# Altium footprint library lib.PcbLib: 34 footprints (part 2 of 3)
Each footprint in its own frame and in the unit in brackets; x right, y up, seen from the top. Pads: shape width x height; smd on the part's side, far side on the other; paste and mask are expansions set on the pad; w line width, h text height; cw(c..) or ccw(c..) is an arc to the next point about the centre after c.
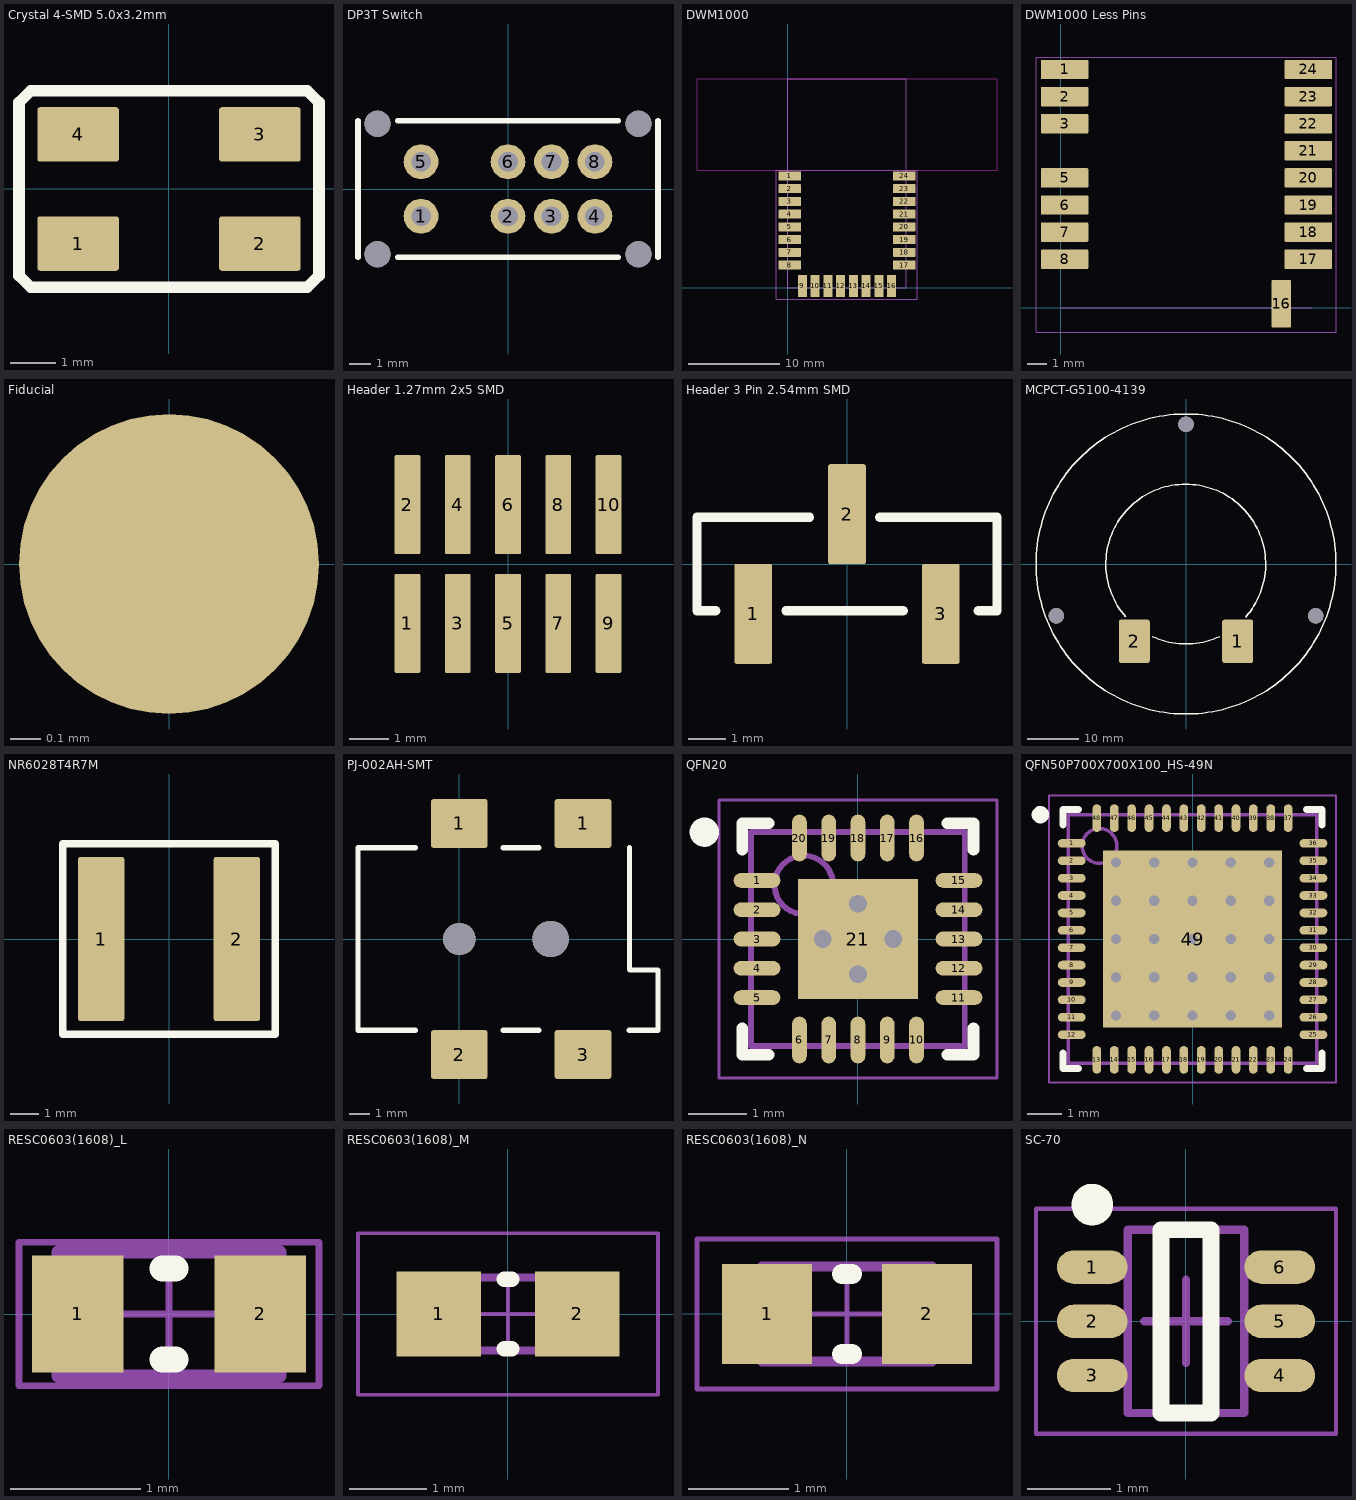
[diagram p1: the footprints below, top view; thin cyan lines are the x and y axes]

## Crystal 4-SMD 5.0x3.2mm [mm] "Crystal 4-SMD 5.0x3.2mm"
height 1.1
pads (4):
  rrect10% 1.8x1.2 smd: 1(-2,-1.2) 2(2,-1.2) 3(2,1.2) 4(-2,1.2)
Top Overlay:
  lines w0.254: -3.302,-1.905 -3.302,1.905 -3.048,2.159 3.048,2.159 3.302,1.905 3.302,-1.905 3.048,-2.159 -3.048,-2.159 -3.302,-1.905
3D body "ABM3B.STEP": height 1.1, standoff -0.01, extent -2.5,-1.587 2.5,1.588

## DP3T Switch [mm] "DP3T Switch"
height 8.5
pads (12):
  round 1.6 hole 0.9: 1(-4,-1.25) 2(0,-1.25) 3(2,-1.25) 4(4,-1.25) 5(-4,1.25) 6(0,1.25) 7(2,1.25) 8(4,1.25)
  round 1.2 hole 1.2 unplated: ""(-6,-3) ""(-6,3) ""(6,-3) ""(6,3)
Top Overlay:
  lines w0.254: -6.9,-3.15 -6.9,3.15 ; -5.08,-3.15 5.08,-3.15 ; -5.08,3.15 5.08,3.15 ; 6.9,-3.15 6.9,3.15
3D body "dp3t_switch.STEP": height 8.5, standoff 0, extent -6.9,-16.405 6.9,3.25

## DWM1000 [mm]
pads (24):
  rrect10% 2.45x1 smd: 1(0.205,12.3) 2(0.205,10.9) 3(0.205,9.5) 4(0.205,8.1) 5(0.205,6.7) 6(0.205,5.3) 7(0.205,3.9) 8(0.205,2.5) 17(12.795,2.5) 18(12.795,3.9) 19(12.795,5.3) 20(12.795,6.7) 21(12.795,8.1) 22(12.795,9.5) 23(12.795,10.9) 24(12.795,12.3)
  rrect10% 1x2.45 smd: 9(1.6,0.205) 10(3,0.205) 11(4.4,0.205) 12(5.8,0.205) 13(7.2,0.205) 14(8.6,0.205) 15(10,0.205) 16(11.4,0.205)
Keep-Out Layer:
  lines w0.05: 0,12.925 -10,12.925 -10,23 23,23 23,12.925 13,12.925
Mechanical 13:
  lines w0.05: 0,0 0,23 13,23 13,0 0,0
Mechanical 15:
  lines w0.05: -1.27,-1.27 14.224,-1.27 14.224,12.925 -1.27,12.925 -1.27,-1.27
3D body "DWM1000 Module.STEP": height 2.9, standoff -0.01, extent 0,-0.013 13,22.987

## DWM1000 Less Pins [mm]
pads (16):
  rrect10% 2.45x1 smd: 1(0.205,12.3) 2(0.205,10.9) 3(0.205,9.5) 5(0.205,6.7) 6(0.205,5.3) 7(0.205,3.9) 8(0.205,2.5) 17(12.795,2.5) 18(12.795,3.9) 19(12.795,5.3) 20(12.795,6.7) 21(12.795,8.1) 22(12.795,9.5) 23(12.795,10.9) 24(12.795,12.3)
  rrect10% 1x2.45 smd: 16(11.4,0.205)
Mechanical 13:
  lines w0.05: 0,0 13,0
Mechanical 15:
  lines w0.05: -1.27,-1.27 14.224,-1.27 14.224,12.925 -1.27,12.925 -1.27,-1.27
3D body "DWM1000 Module.STEP": height 2.9, standoff -0.01, extent 0,-0.013 13,22.987

## Fiducial [mm] "Fiducial"
pads (1):
  round 1 smd paste-1 mask+0: ""(0,0)

## Header 1.27mm 2x5 SMD [mm] "Header 1.27mm 5x2 SMD"
height 4.5
pads (10):
  rrect10% 0.65x2.5 smd: 1(-2.54,-1.5) 2(-2.54,1.5) 3(-1.27,-1.5) 4(-1.27,1.5) 5(0,-1.5) 6(0,1.5) 7(1.27,-1.5) 8(1.27,1.5) 9(2.54,-1.5) 10(2.54,1.5)
3D body "pin_header_a-sl127-dg-g10mp1.stp": height 6.4, standoff 0, extent -3.175,-2.751 3.175,2.751

## Header 3 Pin 2.54mm SMD [mm] "Header 3 Pin 2.54mm SMD"
height 5
pads (3):
  rrect10% 1.02x2.7 smd: 1(-2.54,-1.35) 2(0,1.35) 3(2.54,-1.35)
Top Overlay:
  lines w0.254: -3.556,-1.27 -4.06,-1.27 -4.06,1.27 -1.016,1.27 ; -1.651,-1.27 1.524,-1.27 ; 0.889,1.27 4.06,1.27 4.06,-1.27 3.556,-1.27
3D body "BG125-03-X-1-1-0440-X-X_revG.step": height 5, standoff 0, extent -4.056,-2.2 4.064,2.2

## MCPCT-G5100-4139 [mm] "Piezo Speaker"
height 16
pads (5):
  rrect15% 6x8.4 smd paste-8.4: 1(10,-14.95) 2(-10,-14.95)
  round 3 hole 3 unplated: ""(-25.07,-10.04) ""(0,27) ""(25.07,-10.04)
Top Overlay:
  circle w0.254: c0,0 r29
  lines w0.254: -11.642,-10.24 cw(c-0.05,-0.025) 11.531,-10.252 ; -6.486,-14.023 ccw(c0,0) 6.497,-14.018
3D body "multicomp_MCPCT-G5120-4140_5.1mmdiameter.STEP": height 16, standoff 0, extent -25.5,-25.5 25.5,25.5

## NR6028T4R7M [mm]
height 2.8
pads (2):
  rrect10% 1.6x5.7 smd: 1(-2.35,0) 2(2.35,0)
Top Overlay:
  lines w0.254: -3.683,-3.302 3.683,-3.302 3.683,3.302 -3.683,3.302 -3.683,-3.302
3D body "IND_TAIYO_NR6028.stp": height 2.79, standoff 0, extent -3.099,-3.099 3.099,3.099

## PJ-002AH-SMT [mm]
height 11
pads (6):
  rrect10% 2.8x2.4 smd: 1(0,5.7) 1(6.1,5.7) 2(0,-5.7) 3(6.1,-5.7)
  round 1.6 hole 1.6 unplated: ""(0,0)
  round 1.8 hole 1.8 unplated: ""(4.5,0)
Top Overlay:
  lines w0.254: -2.159,-4.5 -5,-4.5 -5,4.5 -2.159,4.5 ; 2.159,-4.5 3.937,-4.5 ; 2.159,4.5 3.937,4.5 ; 8.382,-4.5 9.8,-4.5 9.8,-1.545 ; 8.4,4.5 8.4,-1.506 8.418,-1.524 9.779,-1.524
3D body "pj-002ah-smt.stp": height 11, standoff -1.2, extent -5,-6.3 9.8,6.3

## QFN20 [mm] "QFN, 20-Leads, Body 3.50x3.50mm, Pitch 0.50mm, Thermal Pad 2.05x2.05mm, IPC Medium Density"
height 1
pads (21):
  oval 0.8x0.25 smd: 1(-1.725,1) 2(-1.725,0.5) 3(-1.725,0) 4(-1.725,-0.5) 5(-1.725,-1) 11(1.725,-1) 12(1.725,-0.5) 13(1.725,0) 14(1.725,0.5) 15(1.725,1)
  oval 0.25x0.8 smd: 6(-1,-1.725) 7(-0.5,-1.725) 8(0,-1.725) 9(0.5,-1.725) 10(1,-1.725) 16(1,1.725) 17(0.5,1.725) 18(0,1.725) 19(-0.5,1.725) 20(-1,1.725)
  rect 2.05x2.05 smd paste-2.05: 21(0,0)
via 0,0.6 diameter 0.6 hole 0.3
via 0.6,0 diameter 0.6 hole 0.3
via 0,-0.6 diameter 0.6 hole 0.3
via -0.6,0 diameter 0.6 hole 0.3
Top Overlay:
  circle w0.25: c-2.625,1.825 r0.125
  lines w0.2: -1.975,-1.525 -1.975,-1.975 -1.525,-1.975 ; -1.975,1.525 -1.975,1.975 -1.525,1.975 ; 1.525,-1.975 1.975,-1.975 1.975,-1.525 ; 1.525,1.975 1.975,1.975 1.975,1.525
Top Paste:
  rectangle: -0.92,0.1 -0.1,0.92
  rectangle: 0.1,0.1 0.92,0.92
  rectangle: 0.105,-0.92 0.925,-0.1
  rectangle: -0.92,-0.92 -0.1,-0.1
Mechanical 13:
  circle w0.1: c-0.925,0.925 r0.5
  lines w0.1: -1.825,-1.825 -1.825,1.825 1.825,1.825 1.825,-1.825 -1.825,-1.825
Mechanical 15:
  lines w0.05: -2.375,-2.375 -2.375,2.375 2.375,2.375 2.375,-2.375 -2.375,-2.375
  lines w0.1: -0.5,0 0.5,0 ; 0,-0.5 0,0.5
3D body "QFN50P350X350X100_HS-21N.step": height 1, standoff 0, extent -1.875,-1.875 1.875,1.875

## QFN50P700X700X100_HS-49N [mm] "QFN, 48-Leads, Body 7.00x7.00mm, Pitch 0.50mm, Thermal Pad 5.15x5.10mm, IPC Medium Density"
height 1
pads (49):
  oval 0.8x0.25 smd: 1(-3.475,2.75) 2(-3.475,2.25) 3(-3.475,1.75) 4(-3.475,1.25) 5(-3.475,0.75) 6(-3.475,0.25) 7(-3.475,-0.25) 8(-3.475,-0.75) 9(-3.475,-1.25) 10(-3.475,-1.75) 11(-3.475,-2.25) 12(-3.475,-2.75) 25(3.475,-2.75) 26(3.475,-2.25) 27(3.475,-1.75) 28(3.475,-1.25) 29(3.475,-0.75) 30(3.475,-0.25) 31(3.475,0.25) 32(3.475,0.75) 33(3.475,1.25) 34(3.475,1.75) 35(3.475,2.25) 36(3.475,2.75)
  oval 0.25x0.8 smd: 13(-2.75,-3.475) 14(-2.25,-3.475) 15(-1.75,-3.475) 16(-1.25,-3.475) 17(-0.75,-3.475) 18(-0.25,-3.475) 19(0.25,-3.475) 20(0.75,-3.475) 21(1.25,-3.475) 22(1.75,-3.475) 23(2.25,-3.475) 24(2.75,-3.475) 37(2.75,3.475) 38(2.25,3.475) 39(1.75,3.475) 40(1.25,3.475) 41(0.75,3.475) 42(0.25,3.475) 43(-0.25,3.475) 44(-0.75,3.475) 45(-1.25,3.475) 46(-1.75,3.475) 47(-2.25,3.475) 48(-2.75,3.475)
  rect 5.15x5.1 smd paste-5.15: 49(0,0)
via -2.2,1.1 diameter 0.6 hole 0.3
via -2.2,-1.1 diameter 0.6 hole 0.3
via -2.2,-2.2 diameter 0.6 hole 0.3
via -1.1,-2.2 diameter 0.6 hole 0.3
via 0,-2.2 diameter 0.6 hole 0.3
via -1.1,-1.1 diameter 0.6 hole 0.3
via 0,-1.1 diameter 0.6 hole 0.3
via 1.1,-1.1 diameter 0.6 hole 0.3
via 1.1,-2.2 diameter 0.6 hole 0.3
via 2.2,-2.2 diameter 0.6 hole 0.3
via 2.2,-1.1 diameter 0.6 hole 0.3
via 2.2,0 diameter 0.6 hole 0.3
via 1.1,0 diameter 0.6 hole 0.3
via 0,0 diameter 0.6 hole 0.3
via -1.1,0 diameter 0.6 hole 0.3
via -2.2,0 diameter 0.6 hole 0.3
via -1.1,1.1 diameter 0.6 hole 0.3
via 0,1.1 diameter 0.6 hole 0.3
via 1.1,1.1 diameter 0.6 hole 0.3
via 2.2,1.1 diameter 0.6 hole 0.3
via 2.2,2.2 diameter 0.6 hole 0.3
via 1.1,2.2 diameter 0.6 hole 0.3
via 0,2.2 diameter 0.6 hole 0.3
via -1.1,2.2 diameter 0.6 hole 0.3
via -2.2,2.2 diameter 0.6 hole 0.3
Top Overlay:
  circle w0.25: c-4.375,3.575 r0.125
  lines w0.2: -3.725,-3.275 -3.725,-3.725 -3.275,-3.725 ; -3.725,3.275 -3.725,3.725 -3.275,3.725 ; 3.275,-3.725 3.725,-3.725 3.725,-3.275 ; 3.275,3.725 3.725,3.725 3.725,3.275
Top Paste:
  rectangle: -0.725,-0.725 0.725,0.725
  rectangle: -2.475,-0.725 -1.025,0.725
  rectangle: 1.025,-0.725 2.475,0.725
  rectangle: 1.025,1 2.475,2.45
  rectangle: -2.475,1 -1.025,2.45
  rectangle: -0.725,1 0.725,2.45
  rectangle: 1.025,-2.45 2.475,-1
  rectangle: -2.475,-2.45 -1.025,-1
  rectangle: -0.725,-2.45 0.725,-1
Mechanical 13:
  circle w0.1: c-2.675,2.675 r0.5
  lines w0.1: -3.575,-3.575 3.575,-3.575 3.575,3.575 -3.575,3.575 -3.575,-3.575
Mechanical 15:
  lines w0.05: -4.125,-4.125 4.125,-4.125 4.125,4.125 -4.125,4.125 -4.125,-4.125
  lines w0.1: -0.5,0 0.5,0 ; 0,-0.5 0,0.5
3D body "QFN50P700X700X100_HS-49N.step": height 1, standoff 0, extent -3.576,-3.576 3.576,3.576

## RESC0603(1608)_L [mm] "Chip Resistor, Body 1.6x0.8mm, IPC High Density"
height 0.6
pads (2):
  rect 0.7x0.9 smd: 1(-0.7,0) 2(0.7,0)
Top Overlay:
  lines w0.2: -0.05,-0.35 0.05,-0.35 ; -0.05,0.35 0.05,0.35
Mechanical 13:
  lines w0.1: -0.85,-0.475 -0.85,0.475 0.85,0.475 0.85,-0.475 -0.85,-0.475
Mechanical 15:
  lines w0.05: -0.475,0 0.475,0 ; 0,-0.475 0,0.475 ; -1.15,-0.55 -1.15,0.55 1.15,0.55 1.15,-0.55 -1.15,-0.55
3D body: height 0.6, standoff 0, extent 0.581,-0.474 0.85,0.475
3D body: height 0.6, standoff 0, extent -0.58,-0.474 0.581,0.475
3D body: height 0.6, standoff 0, extent -0.849,-0.474 -0.58,0.475

## RESC0603(1608)_M [mm] "Chip Resistor, Body 1.6x0.8mm, IPC Low Density"
height 0.6
pads (2):
  rect 1.1x1.1 smd: 1(-0.9,0) 2(0.9,0)
Top Overlay:
  lines w0.2: -0.05,-0.45 0.05,-0.45 ; -0.05,0.45 0.05,0.45
Mechanical 13:
  lines w0.1: -0.85,-0.475 -0.85,0.475 0.85,0.475 0.85,-0.475 -0.85,-0.475
Mechanical 15:
  lines w0.05: -0.475,0 0.475,0 ; 0,-0.475 0,0.475 ; -1.95,-1.05 -1.95,1.05 1.95,1.05 1.95,-1.05 -1.95,-1.05
3D body: height 0.6, standoff 0, extent -0.849,-0.474 -0.58,0.475
3D body: height 0.6, standoff 0, extent -0.58,-0.474 0.581,0.475
3D body: height 0.6, standoff 0, extent 0.581,-0.474 0.85,0.475

## RESC0603(1608)_N [mm] "Chip Resistor, Body 1.6x0.8mm, IPC Medium Density"
height 0.6
pads (2):
  rect 0.9x1 smd: 1(-0.8,0) 2(0.8,0)
Top Overlay:
  lines w0.2: -0.05,-0.4 0.05,-0.4 ; -0.05,0.4 0.05,0.4
Mechanical 13:
  lines w0.1: -0.85,-0.475 -0.85,0.475 0.85,0.475 0.85,-0.475 -0.85,-0.475
Mechanical 15:
  lines w0.05: -0.475,0 0.475,0 ; 0,-0.475 0,0.475 ; -1.5,-0.75 -1.5,0.75 1.5,0.75 1.5,-0.75 -1.5,-0.75
3D body: height 0.6, standoff 0, extent 0.581,-0.474 0.85,0.475
3D body: height 0.6, standoff 0, extent -0.58,-0.474 0.581,0.475
3D body: height 0.6, standoff 0, extent -0.849,-0.474 -0.58,0.475

## SC-70 [mm] "TSOP, 6-Leads, Body 2.00x1.25mm, Pitch 0.65mm, IPC Medium Density"
height 1.1
pads (6):
  oval 0.85x0.4 smd: 1(-1.125,0.65) 2(-1.125,0) 3(-1.125,-0.65) 4(1.125,-0.65) 5(1.125,0) 6(1.125,0.65)
Top Overlay:
  circle w0.25: c-1.125,1.4 r0.125
  lines w0.2: -0.3,-1.1 0.3,-1.1 0.3,1.1 -0.3,1.1 -0.3,-1.1
Mechanical 13:
  lines w0.1: -0.7,-1.1 0.7,-1.1 0.7,1.1 -0.7,1.1 -0.7,-1.1
Mechanical 15:
  lines w0.05: -1.8,-1.35 1.8,-1.35 1.8,1.35 -1.8,1.35 -1.8,-1.35
  lines w0.1: -0.5,0 0.5,0 ; 0,-0.5 0,0.5
3D body "TSOP65P210X110-6N.step": height 1.1, standoff 0, extent -1.05,-1.1 1.05,1.1